# Altium footprint library 集成接线头.PcbLib: 105 footprints (part 2 of 7)
Each footprint in its own frame and in the unit in brackets; x right, y up, seen from the top. Pads: shape width x height; smd on the part's side, far side on the other; paste and mask are expansions set on the pad; w line width, h text height; cw(c..) or ccw(c..) is an arc to the next point about the centre after c.
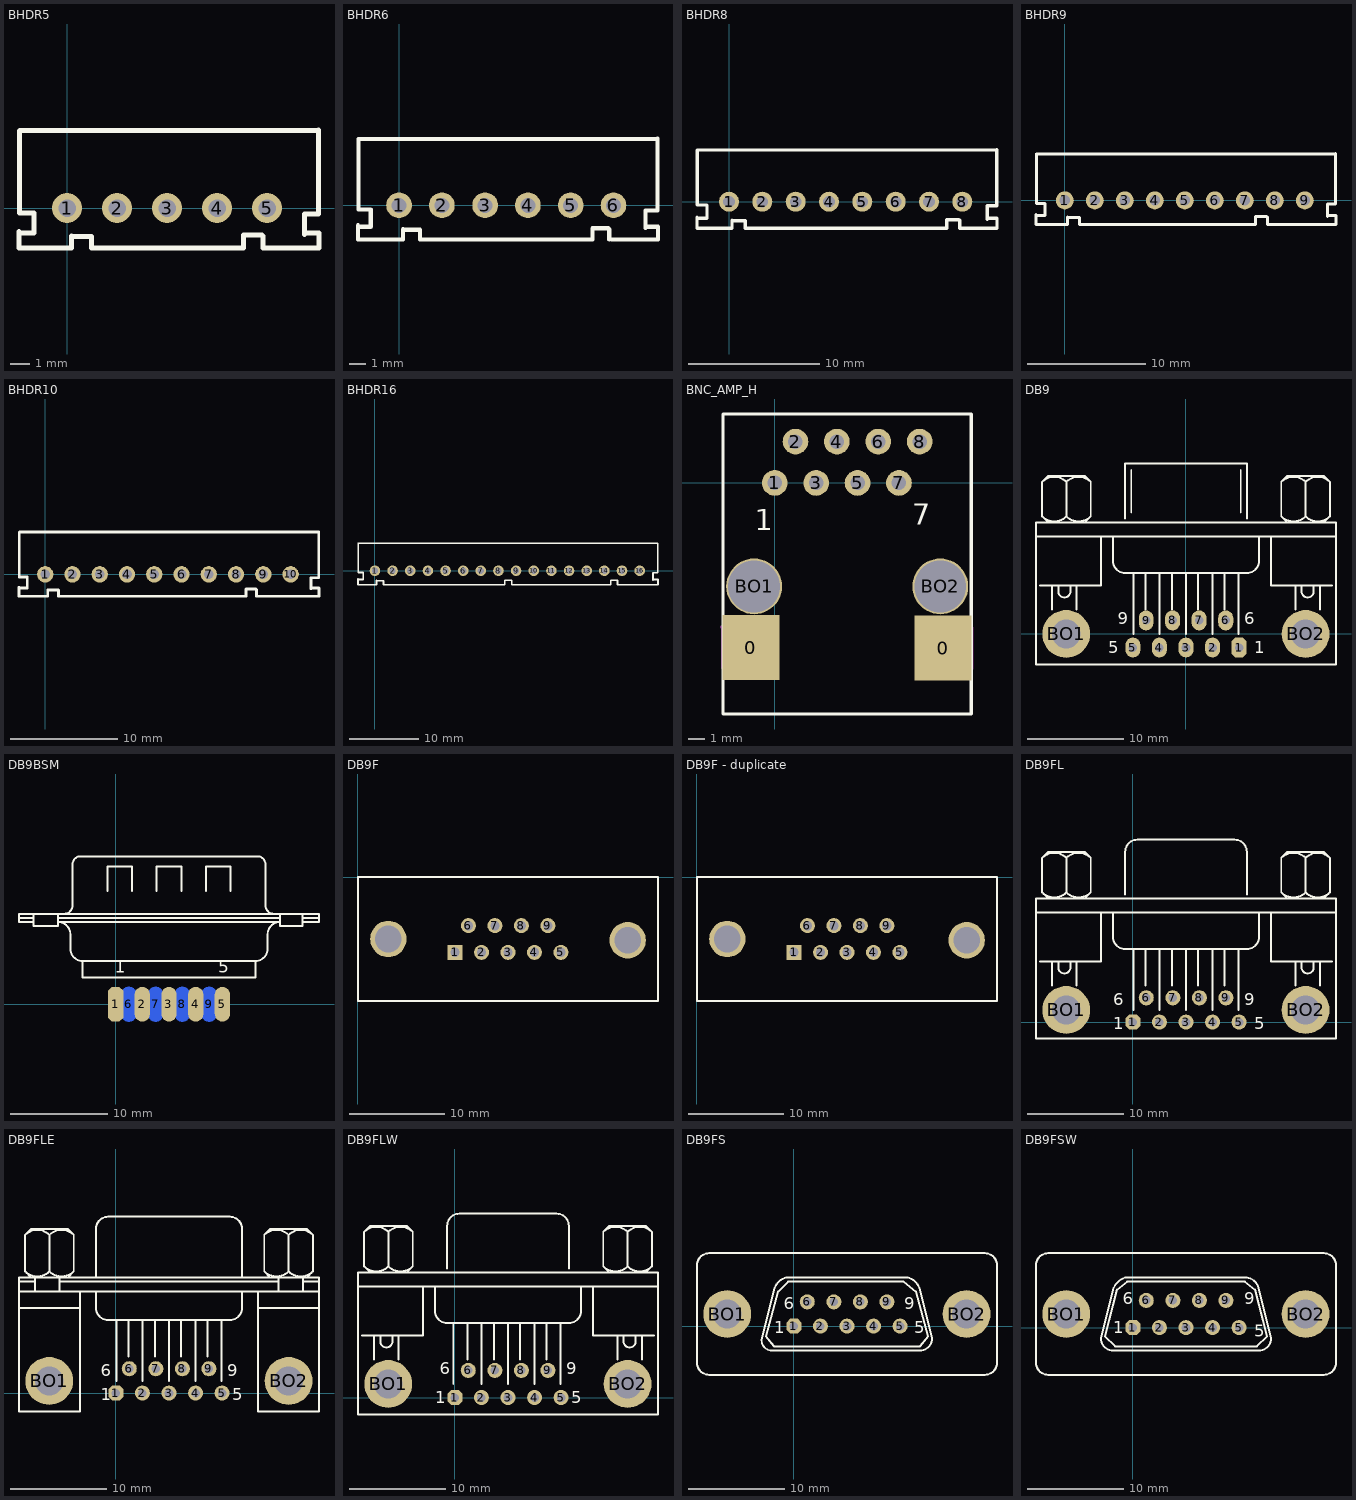
[diagram p1: the footprints below, top view; thin cyan lines are the x and y axes]

## BHDR5 [mil]
pads (5):
  round 60 hole 35: 1(0,0) 2(100,0) 3(200,0) 4(300,0) 5(400,0)
Top Overlay:
  lines w10: -96,-50 -66,-50 -66,-10 -95,-10 -95,134 ; -96,-47 -96,-80 ; -95,-79 -96,-80 ; -95,103 -95,154 -94,155 -31,155 ; -73,155 93,155 ; 82,155 179,155 ; 175,155 341,155 ; 275,155 394,155 501,155 ; 390,-54 353,-54 353,-80 49,-80 49,-57 10,-57 9,-56 9,-80 -96,-80 ; 392,-80 392,-56 ; 395,-80 500,-80 ; 475,-53 475,-12 503,-12 503,156 ; 475,-50 504,-50 504,-80

## BHDR6 [mil]
pads (6):
  round 60 hole 35: 1(0,0) 2(100,0) 3(201,0) 4(301,0) 5(401,0) 6(501,0)
Top Overlay:
  lines w10: -96,-50 -66,-50 -66,-10 -95,-10 -95,134 ; -96,-47 -96,-80 ; -95,-79 -96,-80 ; -95,103 -95,154 -94,155 -31,155 ; -73,155 93,155 ; 82,155 575,155 ; 276,155 442,155 ; 376,155 495,155 602,155 ; 491,-80 491,-56 489,-54 452,-54 452,-80 49,-80 49,-57 10,-57 9,-56 9,-80 -96,-80 ; 496,-80 601,-80 ; 576,-53 576,-12 604,-12 604,156 ; 576,-50 605,-50 605,-80

## BHDR8 [mil]
pads (8):
  round 60 hole 35: 1(0,0) 2(100,0) 3(200,0) 4(300,0) 5(400,0) 6(500,0) 7(600,0) 8(700,0)
Top Overlay:
  lines w10: -96,-50 -66,-50 -66,-10 -95,-10 -95,134 ; -96,-47 -96,-80 ; -95,-79 -96,-80 ; -95,103 -95,154 -94,155 -31,155 ; -73,155 93,155 ; 82,155 575,155 694,155 801,155 ; 168,155 439,155 ; 200,-80 248,-80 ; 371,-80 653,-80 653,-54 690,-54 692,-56 692,-80 ; 458,-80 49,-80 49,-57 10,-57 9,-56 9,-80 -96,-80 ; 475,155 641,155 ; 695,-80 800,-80 ; 775,-53 775,-12 803,-12 803,156 ; 775,-50 804,-50 804,-80

## BHDR9 [mil]
pads (9):
  round 60 hole 35: 1(0,0) 2(100,0) 3(200,0) 4(300,0) 5(400,0) 6(500,0) 7(600,0) 8(700,0) 9(800,0)
Top Overlay:
  lines w10: -96,-50 -66,-50 -66,-10 -95,-10 -95,134 ; -96,-47 -96,-80 ; -95,-79 -96,-80 ; -95,103 -95,154 -94,155 -31,155 ; -73,155 93,155 ; 82,155 575,155 741,155 ; 168,155 439,155 ; 200,-80 248,-80 ; 371,-80 636,-80 636,-54 673,-54 675,-56 675,-80 774,-80 ; 458,-80 49,-80 49,-57 10,-57 9,-56 9,-80 -96,-80 ; 675,155 794,155 901,155 ; 743,-80 795,-80 900,-80 ; 875,-53 875,-12 903,-12 903,156 ; 875,-50 904,-50 904,-80

## BHDR10 [mil]
pads (10):
  round 60 hole 35: 1(0,0) 2(100,0) 3(200,0) 4(300,0) 5(400,0) 6(500,0) 7(600,0) 8(700,0) 9(800,0) 10(900,0)
Top Overlay:
  lines w10: -96,-50 -66,-50 -66,-10 -95,-10 -95,134 ; -96,-47 -96,-80 ; -95,-79 -96,-80 ; -95,103 -95,154 -94,155 -31,155 ; -73,155 93,155 ; 82,155 675,155 841,155 ; 168,155 439,155 ; 200,-80 248,-80 ; 371,-80 736,-80 736,-54 773,-54 775,-56 775,-80 874,-80 ; 458,-80 49,-80 49,-57 10,-57 9,-56 9,-80 -96,-80 ; 775,155 894,155 1001,155 ; 843,-80 895,-80 1000,-80 ; 975,-53 975,-12 1003,-12 1003,156 ; 975,-50 1004,-50 1004,-80

## BHDR16 [mil]
pads (16):
  round 60 hole 35: 1(0,0) 2(100,0) 3(200,0) 4(300,0) 5(400,0) 6(500,0) 7(600,0) 8(700,0) 9(800,0) 10(900,0) 11(1000,0) 12(1100,0) 13(1200,0) 14(1300,0) 15(1400,0) 16(1500,0)
Top Overlay:
  lines w10: -96,-50 -66,-50 -66,-10 -95,-10 -95,134 ; -96,-47 -96,-80 ; -95,-79 -96,-80 ; -95,103 -95,154 -94,155 -31,155 ; -73,155 93,155 ; 82,155 675,155 841,155 ; 168,155 439,155 ; 200,-80 248,-80 ; 371,-80 736,-80 736,-54 773,-54 775,-56 775,-80 874,-80 ; 458,-80 49,-80 49,-57 10,-57 9,-56 9,-80 -96,-80 ; 775,155 894,155 1295,155 ; 843,-80 895,-80 1000,-80 ; 971,-80 1336,-80 1336,-54 1373,-54 1375,-56 1375,-80 1474,-80 ; 1275,155 1441,155 ; 1375,155 1494,155 1601,155 ; 1443,-80 1495,-80 1600,-80 ; 1575,-53 1575,-12 1603,-12 1603,156 ; 1575,-50 1604,-50 1604,-80

## BNC_AMP_H [mil]
pads (12):
  rect 137.79x157.48 all layers, no hole: 0(-58,-398) 0(407,-399)
  round 62 hole 35: 1(0,0) 2(50,100) 3(100,0) 4(150,100) 5(200,0) 6(250,100) 7(300,0) 8(350,100)
  round 135 hole 125: BO1(-50,-250) BO2(400,-250)
Top Overlay:
  lines w8: -125,-558.33 -125,166.67 475,166.67 475,-558.33 -125,-558.33
  text "1" at -47.84,-114.13 h50
  text "7" at 332.45,-101.06 h50
Keep-Out Layer:
  lines w10: -127,-348 -80,-348 -79,-349 -79,-447 -80,-448 -123,-448 -125,-446 -125,-348 ; 427,-349 474,-349 475,-350 475,-448 474,-449 431,-449 429,-447 429,-349 ; 467,-349 470,-352

## DB9 [mil]
pads (11):
  oct 62x82 hole 35: 1(218.75,-55.83)
  oval 62x82 hole 35: 2(109.58,-55.83) 3(0.42,-55.83) 4(-108.75,-55.83) 5(-217.92,-55.83) 6(163.75,55.83) 7(54.58,55.83) 8(-54.58,55.83)
  oval 60x82 hole 35: 9(-163.75,55.83)
  round 196.67 hole 118.33: BO1(-492.08,0) BO2(492.08,0)
Top Overlay:
  lines w8: -616.25,400 617.08,400 ; -599.58,200 -349.58,200 -349.58,400 ; -591.34,483.25 ccw(c-541.25,533.33) -491.16,483.25 ; -591.34,625.09 cw(c-541.25,575) -491.16,625.09 ; -566.25,458.33 -591.25,483.33 -591.25,625 -566.25,650 -416.25,650 -391.25,625 -391.25,483.33 -416.25,458.33 ; -549.58,100 -549.58,200 ; -524.58,200 -524.58,175 ccw(c-499.58,175) -474.58,175 -474.58,200 ; -491.34,483.25 ccw(c-441.25,533.33) -391.16,483.25 ; -491.34,625.09 cw(c-441.25,575) -391.16,625.09 ; -491.25,483.33 -491.25,625 ; -449.58,100 -449.58,200 ; -299.58,400 -299.58,300 ccw(c-249.58,300) -249.58,250 250.42,250 ccw(c250.42,300) 300.42,300 300.42,400 ; -249.58,475 -249.58,700 250.42,700 250.42,475 ; -224.58,500 -224.58,675 ; -216.25,0 -216.25,250 ; -166.25,100 -166.25,250 ; -107.92,0 -107.92,250 ; -57.92,100 -57.92,250 ; 0.42,0 0.42,250 ; 50.42,100 50.42,250 ; 108.75,0 108.75,250 ; 158.75,100 158.75,250 ; 217.08,0 217.08,250 ; 225.42,500 225.42,675 ; 350.42,400 350.42,200 600.42,200 ; 392,483.25 ccw(c442.08,533.33) 492.17,483.25 ; 392,625.09 cw(c442.08,575) 492.17,625.09 ; 417.08,458.33 392.08,483.33 392.08,625 417.08,650 567.08,650 592.08,625 592.08,483.33 567.08,458.33 ; 450.42,100 450.42,200 ; 475.42,200 475.42,175 ccw(c500.42,175) 525.42,175 525.42,200 ; 492,483.25 ccw(c542.08,533.33) 592.17,483.25 ; 492,625.09 cw(c542.08,575) 592.17,625.09 ; 492.08,483.33 492.08,625 ; 550.42,100 550.42,200 ; -616.25,-125 617.08,-125 617.08,458.33 -616.25,458.33 -616.25,-125
  text "6" at 240.42,40 h50
  text "1" at 280.42,-80 h50
  text "5" at -319.58,-80 h50
  text "9" at -279.58,40 h50

## DB9BSM [mil]
pads (9):
  oct 62.5x141.67 smd: 1(0,0)
  oval 62.5x141.67 smd: 2(108.33,0) 3(216.67,0) 4(325,0) 5(433.33,0)
  oval 62.5x141.67 smd far side: 6(54.17,0) 7(162.5,0) 8(270.83,0) 9(379.17,0)
Top Overlay:
  lines w8: -391.67,350 -333.33,350 ; -333.33,333.33 -391.67,333.33 -391.67,366.67 825,366.67 825,333.33 758.33,333.33 ; -333.33,366.67 -333.33,316.67 -233.33,316.67 -233.33,366.67 ; -233.33,350 666.67,350 ; -208.33,366.67 ccw(c-208.33,400) -175,400 -175,566.67 cw(c-141.67,566.67) -141.67,600 575,600 cw(c575,566.67) 608.33,566.67 608.33,400 ccw(c641.67,400) 641.67,366.67 ; -33.33,458.33 -33.33,558.33 66.67,558.33 66.67,458.33 ; 166.67,458.33 166.67,558.33 266.67,558.33 266.67,458.33 ; 366.67,458.33 366.67,558.33 466.67,558.33 466.67,458.33 ; 666.67,366.67 666.67,316.67 758.33,316.67 758.33,366.67 ; 758.33,350 825,350 ; -133.33,175 cw(c-133.33,225) -183.33,225 -183.33,283.33 ccw(c-233.33,283.33) -233.33,333.33 666.67,333.33 ccw(c666.67,283.33) 616.67,283.33 616.67,225 cw(c566.67,225) 566.67,175 ; -133.33,175 566.67,175 ; -133.33,175 -133.33,108.33 566.67,108.33 566.67,175
  text "5" at 416.67,128.33 h50
  text "1" at -3.33,128.33 h50

## DB9F [mil]
pads (11):
  rect 62x62 hole 38: 1(401,-310)
  round 62 hole 38: 2(510,-310) 3(619,-310) 4(728,-310) 5(837,-310) 6(456,-200) 7(565,-200) 8(674,-200) 9(783,-200)
  round 150 hole 110: ""(126,-255) ""(1112,-260)
Top Overlay:
  lines w8: 1,-510 1,0 1237,0 1237,-510 1,-510

## DB9F - duplicate [mil]
pads (11):
  rect 62x62 hole 38: 1(401,-310)
  round 62 hole 38: 2(510,-310) 3(619,-310) 4(728,-310) 5(837,-310) 6(456,-200) 7(565,-200) 8(674,-200) 9(783,-200)
  round 150 hole 110: ""(126,-255) ""(1112,-260)
Top Overlay:
  lines w8: 1,-510 1237,-510 1237,0 1,0 1,-510

## DB9FL [mil]
pads (11):
  oct 62x62 hole 35: 1(0,0)
  round 62 hole 35: 2(109.17,0) 3(218.33,0) 4(327.5,0) 5(436.67,0) 6(55,100) 7(164.17,100) 8(273.33,100) 9(382.5,100)
  round 196.67 hole 118.33: BO1(-274.17,50) BO2(710,50)
Top Overlay:
  lines w8: -398.33,450 835,450 ; -381.67,250 -131.67,250 -131.67,450 ; -373.42,533.25 ccw(c-323.33,583.33) -273.25,533.25 ; -373.42,675.09 cw(c-323.33,625) -273.25,675.09 ; -348.33,508.33 -373.33,533.33 -373.33,675 -348.33,700 -198.33,700 -173.33,675 -173.33,533.33 -198.33,508.33 ; -331.67,150 -331.67,250 ; -306.67,250 -306.67,225 ccw(c-281.67,225) -256.67,225 -256.67,250 ; -273.42,533.25 ccw(c-223.33,583.33) -173.25,533.25 ; -273.42,675.09 cw(c-223.33,625) -173.25,675.09 ; -273.33,533.33 -273.33,675 ; -231.67,150 -231.67,250 ; -81.67,450 -81.67,350 ccw(c-31.67,350) -31.67,300 468.33,300 ccw(c468.33,350) 518.33,350 518.33,450 ; -31.67,525 -31.67,700 cw(c18.33,700) 18.33,750 418.33,750 cw(c418.33,700) 468.33,700 468.33,525 ; 1.67,50 1.67,300 ; 51.67,150 51.67,300 ; 110,50 110,300 ; 160,150 160,300 ; 218.33,50 218.33,300 ; 268.33,150 268.33,300 ; 326.67,50 326.67,300 ; 376.67,150 376.67,300 ; 435,50 435,300 ; 568.33,450 568.33,250 818.33,250 ; 609.91,533.25 ccw(c660,583.33) 710.09,533.25 ; 609.91,675.09 cw(c660,625) 710.09,675.09 ; 635,508.33 610,533.33 610,675 635,700 785,700 810,675 810,533.33 785,508.33 ; 668.33,150 668.33,250 ; 693.33,250 693.33,225 ccw(c718.33,225) 743.33,225 743.33,250 ; 709.91,533.25 ccw(c760,583.33) 810.09,533.25 ; 709.91,675.09 cw(c760,625) 810.09,675.09 ; 710,533.33 710,675 ; 768.33,150 768.33,250 ; -398.33,-66.67 -398.33,508.33 835,508.33 835,-66.67 -398.33,-66.67
  text "6" at -81.67,70 h50
  text "1" at -81.67,-30 h50
  text "5" at 498.33,-30 h50
  text "9" at 458.33,70 h50

## DB9FLE [mil]
pads (11):
  oct 62x62 hole 35: 1(0,0)
  round 62 hole 35: 2(109.17,0) 3(218.33,0) 4(327.5,0) 5(436.67,0) 6(55,100) 7(164.17,100) 8(273.33,100) 9(382.5,100)
  round 196.67 hole 118.33: BO1(-274.17,50) BO2(710,50)
Top Overlay:
  lines w8: -398.33,350 -148.33,350 ; -398.33,416.67 835,416.67 ; -398.33,458.33 -331.67,458.33 ; -373.42,499.91 ccw(c-323.33,550) -273.25,499.91 ; -373.42,650.09 cw(c-323.33,600) -273.25,650.09 ; -348.33,475 -373.33,500 -373.33,650 -348.33,675 -198.33,675 -173.33,650 -173.33,500 -198.33,475 ; -331.67,416.67 -331.67,475 ; -273.42,499.91 ccw(c-223.33,550) -173.25,499.91 ; -273.42,650.09 cw(c-223.33,600) -173.25,650.09 ; -273.33,500 -273.33,650 ; -231.67,416.67 -231.67,475 ; -231.67,458.33 668.33,458.33 ; -148.33,416.67 -148.33,-75 -398.33,-75 -398.33,475 835,475 835,-75 585,-75 585,416.67 ; -81.67,416.67 -81.67,350 ccw(c-31.67,350) -31.67,300 468.33,300 ccw(c468.33,350) 518.33,350 518.33,416.67 ; -81.67,475 -81.67,675 cw(c-31.67,675) -31.67,725 468.33,725 cw(c468.33,675) 518.33,675 518.33,475 ; 1.67,50 1.67,300 ; 51.67,150 51.67,300 ; 110,50 110,300 ; 160,150 160,300 ; 218.33,50 218.33,300 ; 268.33,150 268.33,300 ; 326.67,50 326.67,300 ; 376.67,150 376.67,300 ; 435,50 435,300 ; 585,350 835,350 ; 609.91,499.91 ccw(c660,550) 710.09,499.91 ; 609.91,650.09 cw(c660,600) 710.09,650.09 ; 635,475 610,500 610,650 635,675 785,675 810,650 810,500 785,475 ; 668.33,416.67 668.33,475 ; 709.91,499.91 ccw(c760,550) 810.09,499.91 ; 709.91,650.09 cw(c760,600) 810.09,650.09 ; 710,500 710,650 ; 768.33,416.67 768.33,475 ; 768.33,458.33 835,458.33
  text "6" at -61.67,70 h50
  text "1" at -61.67,-30 h50
  text "5" at 478.33,-30 h50
  text "9" at 458.33,70 h50

## DB9FLW [mil]
pads (11):
  oct 62x62 hole 35: 1(0,0)
  round 62 hole 35: 2(109.17,0) 3(218.33,0) 4(327.5,0) 5(436.67,0) 6(55,111.67) 7(164.17,111.67) 8(273.33,111.67) 9(382.5,111.67)
  round 196.67 hole 118.33: BO1(-274.17,55.83) BO2(710,55.83)
Top Overlay:
  lines w8: -398.33,455.83 835,455.83 ; -381.67,255.83 -131.67,255.83 -131.67,455.83 ; -373.42,539.08 ccw(c-323.33,589.17) -273.25,539.08 ; -373.42,680.92 cw(c-323.33,630.83) -273.25,680.92 ; -348.33,514.17 -373.33,539.17 -373.33,680.83 -348.33,705.83 -198.33,705.83 -173.33,680.83 -173.33,539.17 -198.33,514.17 ; -331.67,155.83 -331.67,255.83 ; -306.67,255.83 -306.67,230.83 ccw(c-281.67,230.83) -256.67,230.83 -256.67,255.83 ; -273.42,539.08 ccw(c-223.33,589.17) -173.25,539.08 ; -273.42,680.92 cw(c-223.33,630.83) -173.25,680.92 ; -273.33,539.17 -273.33,680.83 ; -231.67,155.83 -231.67,255.83 ; -81.67,455.83 -81.67,355.83 ccw(c-31.67,355.83) -31.67,305.83 468.33,305.83 ccw(c468.33,355.83) 518.33,355.83 518.33,455.83 ; -31.67,530.83 -31.67,705.83 cw(c18.33,705.83) 18.33,755.83 393.33,755.83 418.33,755.83 cw(c418.33,705.83) 468.33,705.83 468.33,530.83 ; -6.67,55.83 -6.67,305.83 ; 51.67,155.83 51.67,305.83 ; 110,55.83 110,305.83 ; 160,155.83 160,305.83 ; 218.33,55.83 218.33,305.83 ; 268.33,155.83 268.33,305.83 ; 326.67,55.83 326.67,305.83 ; 376.67,155.83 376.67,305.83 ; 435,55.83 435,305.83 ; 568.33,455.83 568.33,255.83 818.33,255.83 ; 609.91,539.08 ccw(c660,589.17) 710.09,539.08 ; 609.91,680.92 cw(c660,630.83) 710.09,680.92 ; 635,514.17 610,539.17 610,680.83 635,705.83 785,705.83 810,680.83 810,539.17 785,514.17 ; 668.33,155.83 668.33,255.83 ; 693.33,255.83 693.33,230.83 ccw(c718.33,230.83) 743.33,230.83 743.33,255.83 ; 709.91,539.08 ccw(c760,589.17) 810.09,539.08 ; 709.91,680.92 cw(c760,630.83) 810.09,680.92 ; 710,539.17 710,680.83 ; 768.33,155.83 768.33,255.83 ; -398.33,-69.17 835,-69.17 835,514.17 -398.33,514.17 -398.33,-69.17
  text "9" at 458.33,95.83 h50
  text "5" at 478.33,-24.17 h50
  text "1" at -81.67,-24.17 h50
  text "6" at -61.67,95.83 h50

## DB9FS [mil]
pads (11):
  oct 62x62 hole 35: 1(0,0)
  round 62 hole 35: 2(109.17,0) 3(218.33,0) 4(327.5,0) 5(436.67,0) 6(55,100) 7(164.17,100) 8(273.33,100) 9(382.5,100)
  round 196.67 hole 118.33: BO1(-274.17,50) BO2(710,50)
Top Overlay:
  lines w8: -131.72,-50.22 ccw(c-90,-58.33) -81.89,-100.05 ; -131.67,-50 -81.67,150 ; -81.67,-100 518.33,-100 ccw(c518.33,-50) 568.33,-50 518.33,150 ; -81.3,149.86 cw(c-15,133.33) -31.53,199.64 ; -31.67,200 468.33,200 ; 468.2,199.64 cw(c451.67,133.33) 517.97,149.86 ; -398.33,-150 ccw(c-348.33,-150) -348.33,-200 785,-200 ccw(c785,-150) 835,-150 835,250 ccw(c785,250) 785,300 -348.33,300 ccw(c-348.33,250) -398.33,250 -398.33,-150 ; -115,-41.67 -65,141.67 -23.33,183.33 451.67,183.33 501.67,141.67 551.67,-41.67 518.33,-83.33 -81.67,-83.33 -115,-41.67
  text "1" at -81.67,-30 h50
  text "5" at 494.63,-29.7 h50
  text "6" at -41.67,70 h50
  text "9" at 454.03,70.2 h50

## DB9FSW [mil]
pads (11):
  oct 62x62 hole 35: 1(0,0)
  round 62 hole 35: 2(109.17,0) 3(218.33,0) 4(327.5,0) 5(436.67,0) 6(55,111.67) 7(164.17,111.67) 8(273.33,111.67) 9(382.5,111.67)
  round 196.67 hole 118.33: BO1(-274.17,55.83) BO2(710,55.83)
Top Overlay:
  lines w8: -398.33,255.83 cw(c-348.33,255.83) -348.33,305.83 785,305.83 cw(c785,255.83) 835,255.83 835,-144.17 cw(c785,-144.17) 785,-194.17 -348.33,-194.17 cw(c-348.33,-144.17) -398.33,-144.17 -398.33,264.17 ; -81.67,155.83 -131.67,-44.17 ccw(c-81.67,-44.17) -81.67,-94.17 518.33,-94.17 ccw(c518.33,-44.17) 568.33,-44.17 518.33,155.83 ; -78.99,163.03 cw(c-6.67,130.83) -31.13,206.12 ; -31.67,205.83 468.33,205.83 ; 468.23,206.09 cw(c460,147.5) 518.59,155.73 ; -115,-35.83 -73.33,-77.5 510,-77.5 551.67,-35.83 501.67,155.83 460,189.17 -23.33,189.17 -65,155.83 -115,-35.83
  text "9" at 458.33,95.83 h50
  text "5" at 499.33,-37.97 h50
  text "1" at -81.67,-24.17 h50
  text "6" at -41.67,95.83 h50